# EAGLE library part ZIF_52745-0897 (library SamacSys_Parts)
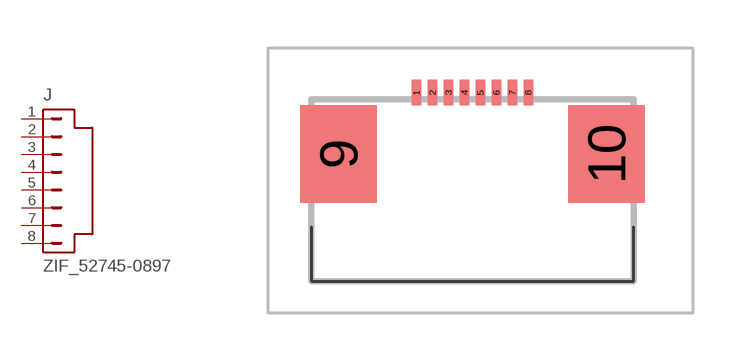
[diagram p0: symbol with the pads of ZIF_527450897; footprint ZIF_527450897]

Designator prefix J

## ZIF_52745-0897  [ZIF_527450897]
1  RESET  pas
2  SDB  pas
3  SCL  pas
4  SDA  pas
5  GND  pas
6  GND2  pas
7  3.3V  pas
8  3.3V2  pas

## Footprint ZIF_527450897 (pad centres in mm)
52745-0897
smd 0.3 x 0.8: 1 -2,2.956; 2 -1.5,2.956; 3 -1,2.956; 4 -0.5,2.956; 5 0,2.956; 6 0.5,2.956; 7 1,2.956; 8 1.5,2.956
smd 2.4 x 3.05: 9 -4.45,1.031; 10 3.95,1.031